# Altium footprint library PcbLib.PcbLib: 43 footprints (part 1 of 3)
Each footprint in its own frame and in the unit in brackets; x right, y up, seen from the top. Pads: shape width x height; smd on the part's side, far side on the other; paste and mask are expansions set on the pad; w line width, h text height; cw(c..) or ccw(c..) is an arc to the next point about the centre after c.
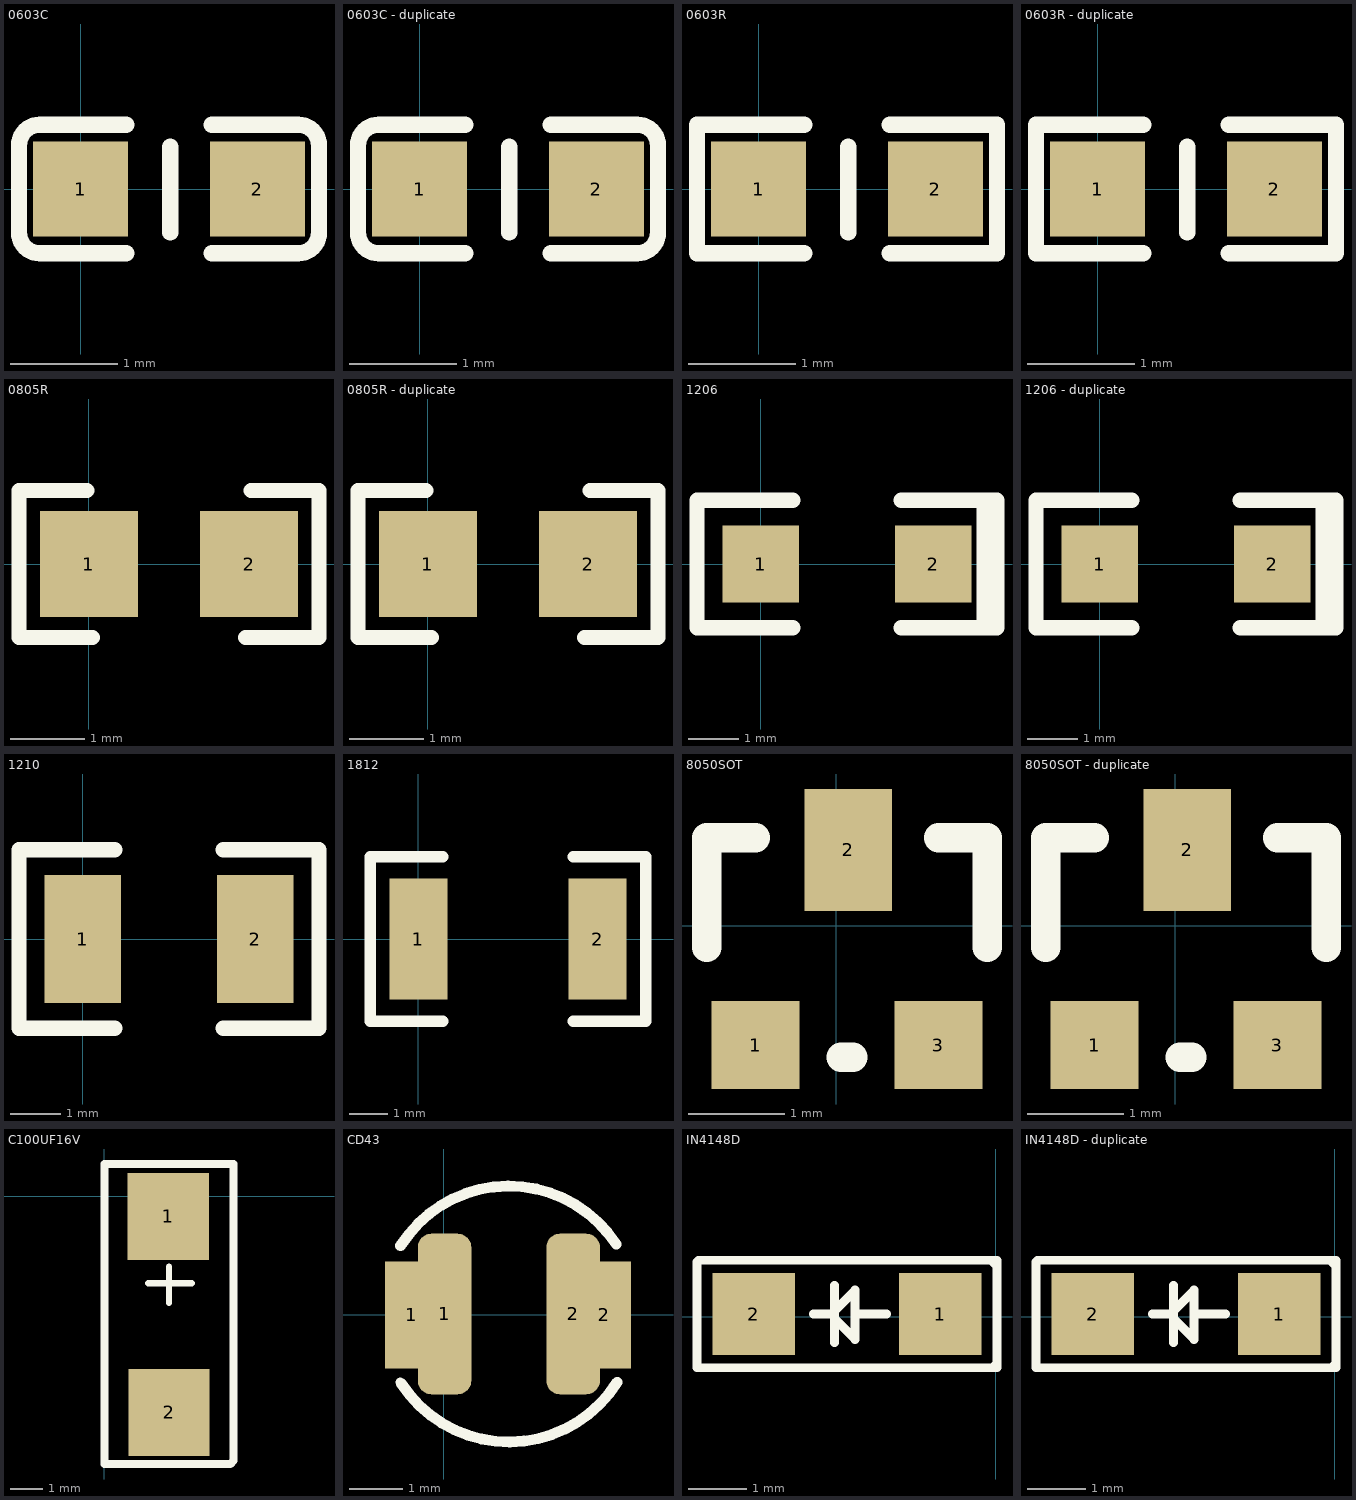
[diagram p0: the footprints below, top view; thin cyan lines are the x and y axes]

## 0603C [mil]
height 39.37
pads (2):
  rect 35x35 smd: 1(0,0) 2(65,0)
Top Overlay:
  lines w6: 16.75,-23.62 -15,-23.62 cw(c-15,-16) -22.62,-16 -22.62,16 cw(c-15,16) -15,23.62 16.75,23.62 ; 33,-16 33,15.5 ; 48.25,-23.62 80,-23.62 ccw(c80,-16) 87.62,-16 87.62,16 ccw(c80,16) 80,23.62 48.25,23.62

## 0603C - duplicate [mil]
height 43.31
pads (2):
  rect 35x35 smd: 1(0,0) 2(65,0)
Top Overlay:
  lines w6: 16.75,-23.62 -15,-23.62 cw(c-15,-16) -22.62,-16 -22.62,16 cw(c-15,16) -15,23.62 16.75,23.62 ; 33,-16 33,15.5 ; 48.25,-23.62 80,-23.62 ccw(c80,-16) 87.62,-16 87.62,16 ccw(c80,16) 80,23.62 48.25,23.62

## 0603R [mil]
height 39.37
pads (2):
  rect 35x35 smd: 1(0,0) 2(65,0)
Top Overlay:
  lines w6: 16.75,-23.62 -22.62,-23.62 -22.62,23.62 16.75,23.62 ; 33,-16 33,15.5 ; 48.24,-23.62 87.61,-23.62 87.61,23.62 48.24,23.62

## 0603R - duplicate [mil]
height 43.31
pads (2):
  rect 35x35 smd: 1(0,0) 2(65,0)
Top Overlay:
  lines w6: 16.75,-23.62 -22.62,-23.62 -22.62,23.62 16.75,23.62 ; 33,-16 33,15.5 ; 48.24,-23.62 87.61,-23.62 87.61,23.62 48.24,23.62

## 0805R [mil]
height 39.37
pads (2):
  rect 52x56 smd: 1(0,0) 2(85,0)
Top Overlay:
  lines w8: -1,39 -37,39 -37,-39 2,-39 ; 83,-39 122,-39 122,39 86,39

## 0805R - duplicate [mil]
height 43.31
pads (2):
  rect 52x56 smd: 1(0,0) 2(85,0)
Top Overlay:
  lines w8: -1,39 -37,39 -37,-39 2,-39 ; 83,-39 122,-39 122,39 86,39

## 1206 [mil]
height 39.37
pads (2):
  rect 60x60 smd: 1(0,0) 2(135,0)
Top Overlay:
  lines w12: 25,-50 -50,-50 -50,50 25,50 ; 110,-50 185,-50 185,50 110,50 ; 175,-50 175,50

## 1206 - duplicate [mil]
height 43.31
pads (2):
  rect 60x60 smd: 1(0,0) 2(135,0)
Top Overlay:
  lines w12: 25,-50 -50,-50 -50,50 25,50 ; 110,-50 185,-50 185,50 110,50 ; 175,-50 175,50

## 1210 [mil]
height 43.31
pads (2):
  rect 60x100 smd: 1(0,0) 2(135,0)
Top Overlay:
  lines w12: 25,-70 -50,-70 -50,70 25,70 ; 110,-70 185,-70 185,70 110,70

## 1812 [mil]
height 43.31
pads (2):
  rect 60x125 smd: 1(0,0) 2(185,0)
Top Overlay:
  lines w12: 25,-85 -50,-85 -50,85 25,85 ; 160,-85 235,-85 235,85 160,85

## 8050SOT [mil]
height 39.37
pads (3):
  rect 36x36 smd: 1(-33,-49) 3(42,-49)
  rect 36x50 smd: 2(5,31)
Top Overlay:
  lines w12: -53,-9 -53,36 -33,36 ; 2,-54 7,-54 ; 42,36 62,36 62,-9

## 8050SOT - duplicate [mil]
height 43.31
pads (3):
  rect 36x36 smd: 1(-33,-49) 3(42,-49)
  rect 36x50 smd: 2(5,31)
Top Overlay:
  lines w12: -53,-9 -53,36 -33,36 ; 2,-54 7,-54 ; 42,36 62,36 62,-9

## C100UF16V [mm]
height 1.1
pads (2):
  rect 2.524x2.7 smd: 1(1.975,-0.625) 2(2,-6.7)
Top Overlay:
  lines w0.2: 0,0 0,-7 0,-7.7 0,0.5 ; 1.354,-2.7 2.7,-2.7 ; 2,-3.3 2,-2.182 ; 3.975,-7.7 4,-7.675 ; 3.975,0.55 4,0.525 4,-7.675 ; 4,-7 4,0 ; 4,-6.65 4,-7.675
  lines w0.254: 0,0 0,1 ; 4,-1 4,1 ; 0,1 4,1 ; 0,1 0,-8.3 3.9,-8.3 4,-8.2 4,1

## CD43 [mm]
height 1.1
pads (4):
  rect 1x2 smd: 1(-0.6,0) 2(3,0)
  rrect50% 1x3 smd: 1(0.016,0.016) 2(2.416,0.016)
Top Overlay:
  lines w0.178: -0.808,-1.26 -0.784,-1.284 ; -0.808,1.292 -0.784,1.316
  lines w0.2: -0.805,1.29 cw(c1.216,0.016) 3.219,1.318 ; -0.787,-1.286 ccw(c1.216,0.016) 3.237,-1.258

## IN4148D [mm]
height 1
pads (2):
  rect 1.4x1.4 smd: 1(-0.94,0.051) 2(-4.115,0.051)
Top Overlay:
  lines w0.152: -4.928,0.965 -0.076,0.965 ; -4.547,0.965 -5.055,0.965 -5.08,0.94 -5.08,0.813 -5.08,-0.864 -0.051,-0.864 0.025,-0.787 0.025,0.864 ; -3.099,0.051 -2.743,0.051 ; -2.743,-0.432 -2.743,0.533 ; -2.743,-0.051 -2.718,-0.051 -2.388,-0.381 -2.388,0.457 -2.743,0.102 -2.743,0.025 ; -2.388,0.051 -1.854,0.051 ; -0.305,-0.864 0.025,-0.864 0.025,-0.508 ; -0.076,0.965 0.025,0.965 0.025,0.864 ; -0.076,0.965 0.025,0.864

## IN4148D - duplicate [mm]
height 1.1
pads (2):
  rect 1.4x1.4 smd: 1(-0.94,0.051) 2(-4.115,0.051)
Top Overlay:
  lines w0.152: -4.928,0.965 -0.076,0.965 ; -4.547,0.965 -5.055,0.965 -5.08,0.94 -5.08,0.813 -5.08,-0.864 -0.051,-0.864 0.025,-0.787 0.025,0.864 ; -3.099,0.051 -2.743,0.051 ; -2.743,-0.432 -2.743,0.533 ; -2.743,-0.051 -2.718,-0.051 -2.388,-0.381 -2.388,0.457 -2.743,0.102 -2.743,0.025 ; -2.388,0.051 -1.854,0.051 ; -0.305,-0.864 0.025,-0.864 0.025,-0.508 ; -0.076,0.965 0.025,0.965 0.025,0.864 ; -0.076,0.965 0.025,0.864